# Altium footprint library PCB_CardSlot.PcbLib: 2 footprints
Each footprint in its own frame and in the unit in brackets; x right, y up, seen from the top. Pads: shape width x height; smd on the part's side, far side on the other; paste and mask are expansions set on the pad; w line width, h text height; cw(c..) or ccw(c..) is an arc to the next point about the centre after c.
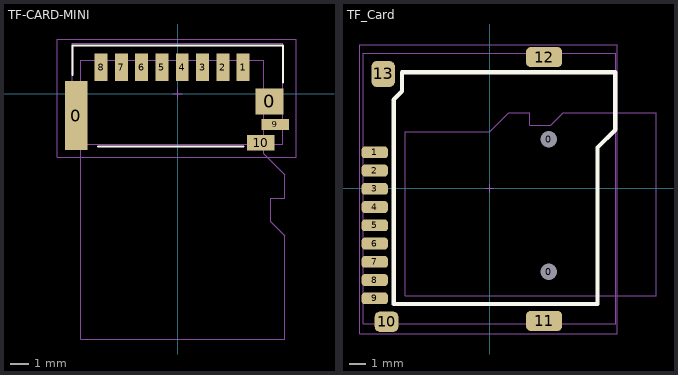
[diagram p0: the footprints below, top view; thin cyan lines are the x and y axes]

## TF-CARD-MINI [mm]
pads (12):
  rect 1.2x3.75 smd: 0(-5.491,-1.183)
  rect 1.5x1.4 smd: 0(4.984,-0.414)
  rect 0.7x1.5 smd: 1(3.554,1.442) 2(2.454,1.442) 3(1.354,1.442) 4(0.254,1.442) 5(-0.846,1.442) 6(-1.946,1.442) 7(-3.046,1.442) 8(-4.146,1.442)
  rect 1.5x0.6 smd: 9(5.294,-1.657)
  rect 1.5x0.85 smd: 10(4.504,-2.647)
Top Overlay:
  lines w0.1: -5.689,1.017 -5.689,2.622 5.705,2.622 5.705,0.617 ; -4.316,-2.855 3.584,-2.855
Top Assembly (Mech13):
  lines w0.051: -0.255,0 0.254,0 ; 0,-0.254 0,0.254 ; -5.7,-2.725 -5.7,2.725 5.7,2.725 5.7,-2.725 -5.7,-2.725 ; -5.249,-13.29 5.8,-13.29 5.8,-12.591 5.8,-7.702 5.038,-6.94 5.038,-6.559 5.038,-5.67 5.8,-5.67 5.8,-4.4 4.657,-3.257 4.657,1.823 -5.249,1.823 -5.249,-13.29
Top Component:
  lines w0.051: -6.519,-3.429 6.435,-3.429 6.435,2.966 -6.519,2.966 -6.519,-3.429
  text ".Designator" at -1.041,-0.61 h2.54
3D body: height 2, standoff 1.2, extent -5.249,-13.29 5.8,1.823
3D body "3.stp": height 2.27, standoff -0.02, extent -5.7,-2.725 5.7,2.725

## TF_Card [mil]
pads (15):
  round 30 hole 39.37 mask+0: 0(140.8,-197.72) 0(140.8,117.24)
  rrect50% 62x28 smd: 1(-272.59,85.75) 2(-272.59,42.44) 3(-272.59,-0.87) 4(-272.59,-44.17) 5(-272.59,-87.48) 6(-272.59,-130.79) 7(-272.59,-174.09) 8(-272.59,-217.4) 9(-272.59,-260.71)
  rrect50% 56x48 smd: 10(-244.59,-316.25)
  rrect50% 86x48 smd: 11(129.41,-314.25) 12(129.41,311.75)
  rrect50% 56x62 smd: 13(-252.59,271.75)
Top Overlay:
  lines w10: -227.59,-274.25 256.41,-274.25 256.41,97.35 298.41,139.35 298.41,275.75 -207.59,275.75 -207.59,230.75 -227.59,210.75 -227.59,-274.25
Top Assembly (Mech13):
  lines w2: -10,0 10,0 ; 0,-10 0,10.04 ; -299.41,-321 -299.41,321 299.41,321 299.41,-321 -299.41,-321 ; -200,-255 -200,135 0,135 45,180 95,180 95,150 130,150 145,150 175,180 367.5,180 395,180 395,-255 -200,-255
Top Component:
  lines w2: -307.59,-344.25 -307.59,340.75 302.41,340.75 302.41,-344.25 -307.59,-344.25
  text ".Designator" at -41,-24 h100
3D body: height 59.06, standoff 19.68, extent -200,-255 395,180
3D body "User Library-Micro SD.STEP": height 78.76, standoff -18.62, extent -299.41,-321 299.41,321